# Altium footprint library ATMEGA64.PcbLib: 1 footprints
Each footprint in its own frame and in the unit in brackets; x right, y up, seen from the top. Pads: shape width x height; smd on the part's side, far side on the other; paste and mask are expansions set on the pad; w line width, h text height; cw(c..) or ccw(c..) is an arc to the next point about the centre after c.
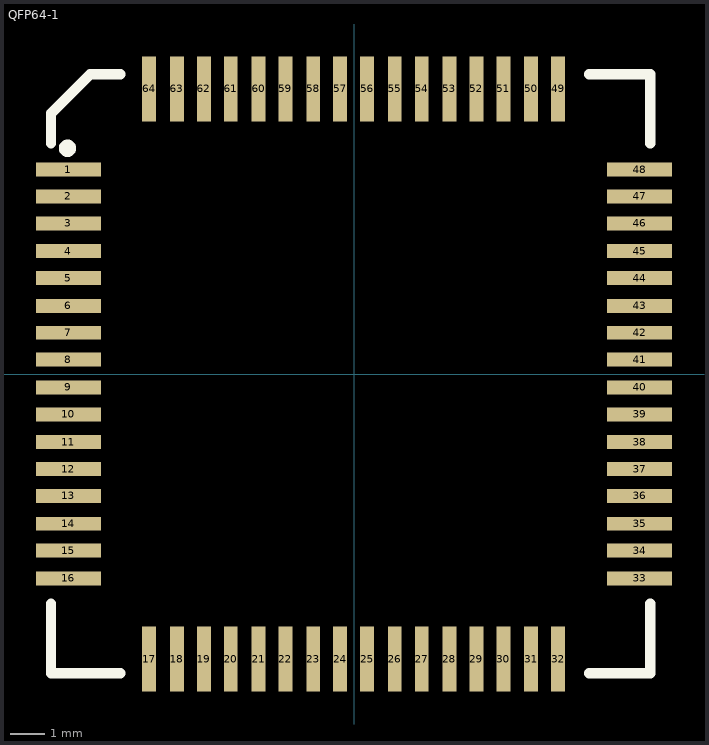
[diagram p0: the footprint, top view; thin cyan lines are the x and y axes]

## QFP64-1 [mil] "ATMEGA64"
pads (64):
  rect 75x16 smd: 1(-329,235.5) 2(-329,204.5) 3(-329,173.5) 4(-329,141.5) 5(-329,110.5) 6(-329,78.5) 7(-329,47.5) 8(-329,16.5) 9(-329,-15.5) 10(-329,-46.5) 11(-329,-78.5) 12(-329,-109.5) 13(-329,-140.5) 14(-329,-172.5) 15(-329,-203.5) 16(-329,-235.5) 33(329,-235.5) 34(329,-203.5) 35(329,-172.5) 36(329,-140.5) 37(329,-109.5) 38(329,-78.5) 39(329,-46.5) 40(329,-15.5) 41(329,16.5) 42(329,47.5) 43(329,78.5) 44(329,110.5) 45(329,141.5) 46(329,173.5) 47(329,204.5) 48(329,235.5)
  rect 16x75 smd: 17(-236,-328.5) 18(-204,-328.5) 19(-173,-328.5) 20(-142,-328.5) 21(-110,-328.5) 22(-79,-328.5) 23(-47,-328.5) 24(-16,-328.5) 25(15,-328.5) 26(47,-328.5) 27(78,-328.5) 28(110,-328.5) 29(141,-328.5) 30(172,-328.5) 31(204,-328.5) 32(235,-328.5) 49(235,328.5) 50(204,328.5) 51(172,328.5) 52(141,328.5) 53(110,328.5) 54(78,328.5) 55(47,328.5) 56(15,328.5) 57(-16,328.5) 58(-47,328.5) 59(-79,328.5) 60(-110,328.5) 61(-142,328.5) 62(-173,328.5) 63(-204,328.5) 64(-236,328.5)
Top Overlay:
  circle w10: c-330,260 r5
  lines w12: -349,-264.5 -349,-344.5 -269,-344.5 ; -349,265.5 -349,300.5 -304,345.5 -269,345.5 ; 271,-344.5 341,-344.5 341,-264.5 ; 271,345.5 341,345.5 341,265.5